# Altium footprint library Diode.PcbLib: 33 footprints (part 3 of 3)
Each footprint in its own frame and in the unit in brackets; x right, y up, seen from the top. Pads: shape width x height; smd on the part's side, far side on the other; paste and mask are expansions set on the pad; w line width, h text height; cw(c..) or ccw(c..) is an arc to the next point about the centre after c.
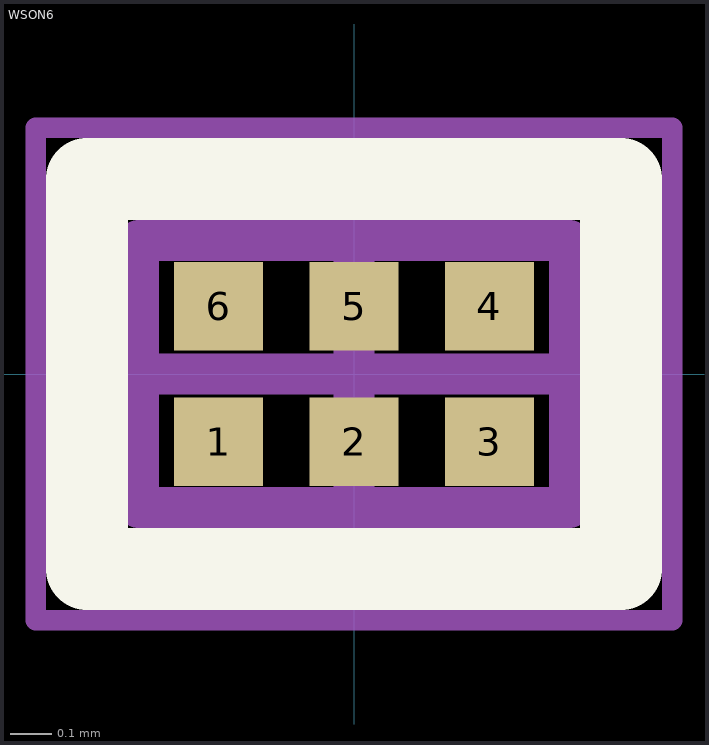
[diagram p2: the footprint, top view; thin cyan lines are the x and y axes]

## WSON6 [mm]
pads (6):
  rect 0.216x0.216 smd: 1(-0.33,-0.165) 2(0,-0.165) 3(0.33,-0.165) 4(0.33,0.165) 5(0,0.165) 6(-0.33,0.165)
Top Overlay:
  lines w0.2: -0.65,-0.475 0.65,-0.475 0.65,0.475 -0.65,0.475 -0.65,-0.475
Mechanical 13:
  circle w0.05: c-0.33,-0.165 r0.071
  lines w0.1: -0.525,-0.325 0.525,-0.325 0.525,0.325 -0.525,0.325 -0.525,-0.325
  text ".Designator" at -1.5,0.75 h0.3
Mechanical 15:
  lines w0.05: -0.775,-0.6 -0.775,0.6 0.775,0.6 0.775,-0.6 -0.775,-0.6
  lines w0.1: -0.5,0 0.5,0 ; 0,-0.5 0,0.5
3D body "SP1012-05WTG v0.step": height 0.36, standoff 0.01, extent -0.47,-0.305 0.47,0.305